# Altium footprint library Temp_Sensor_TI_TMP103_XBGA-4.PcbLib: 1 footprints
Each footprint in its own frame and in the unit in brackets; x right, y up, seen from the top. Pads: shape width x height; smd on the part's side, far side on the other; paste and mask are expansions set on the pad; w line width, h text height; cw(c..) or ccw(c..) is an arc to the next point about the centre after c.
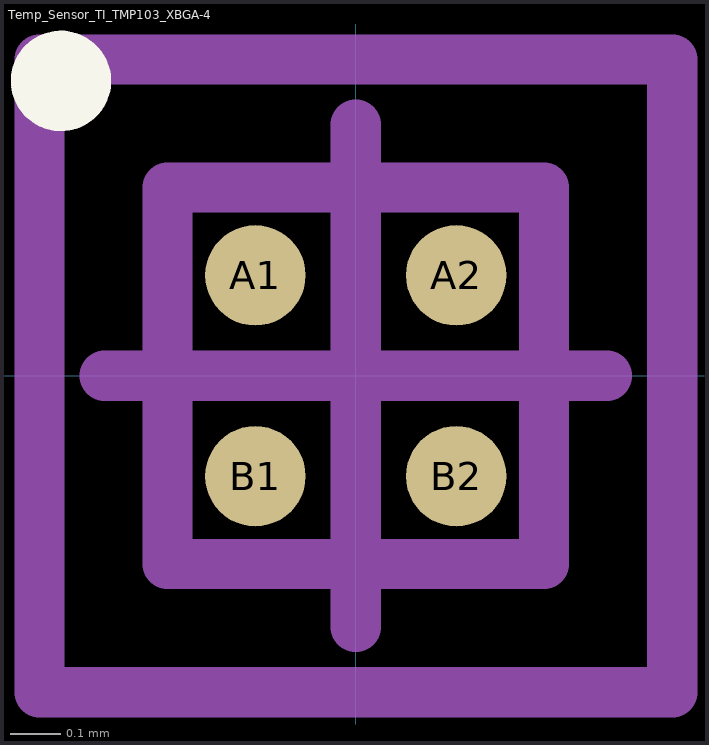
[diagram p0: the footprint, top view; thin cyan lines are the x and y axes]

## Temp_Sensor_TI_TMP103_XBGA-4 [mm]
height 0.625
pads (4):
  round 0.2 smd: A1(-0.2,0.2) A2(0.2,0.2) B1(-0.2,-0.2) B2(0.2,-0.2)
Top Overlay:
  circle w0.1: c-0.587,0.587 r0.05
Mechanical 13:
  lines w0.1: -0.375,-0.375 0.375,-0.375 0.375,0.375 -0.375,0.375 -0.375,-0.375
Mechanical 15:
  lines w0.1: -0.5,0 0.5,0 ; 0,-0.5 0,0.5 ; -0.63,-0.63 0.63,-0.63 0.63,0.63 -0.63,0.63 -0.63,-0.63
3D body: height 0.63, standoff 0.12, extent -0.375,-0.375 0.375,0.375